# Altium schematic symbol library SCH - MCU - RENESAS - RENESAS R7FS5D97XXXXXXFC 176LQFP.SchLib: 1 symbol
Pins are listed as number, name and electrical type; pins without a type are passive.

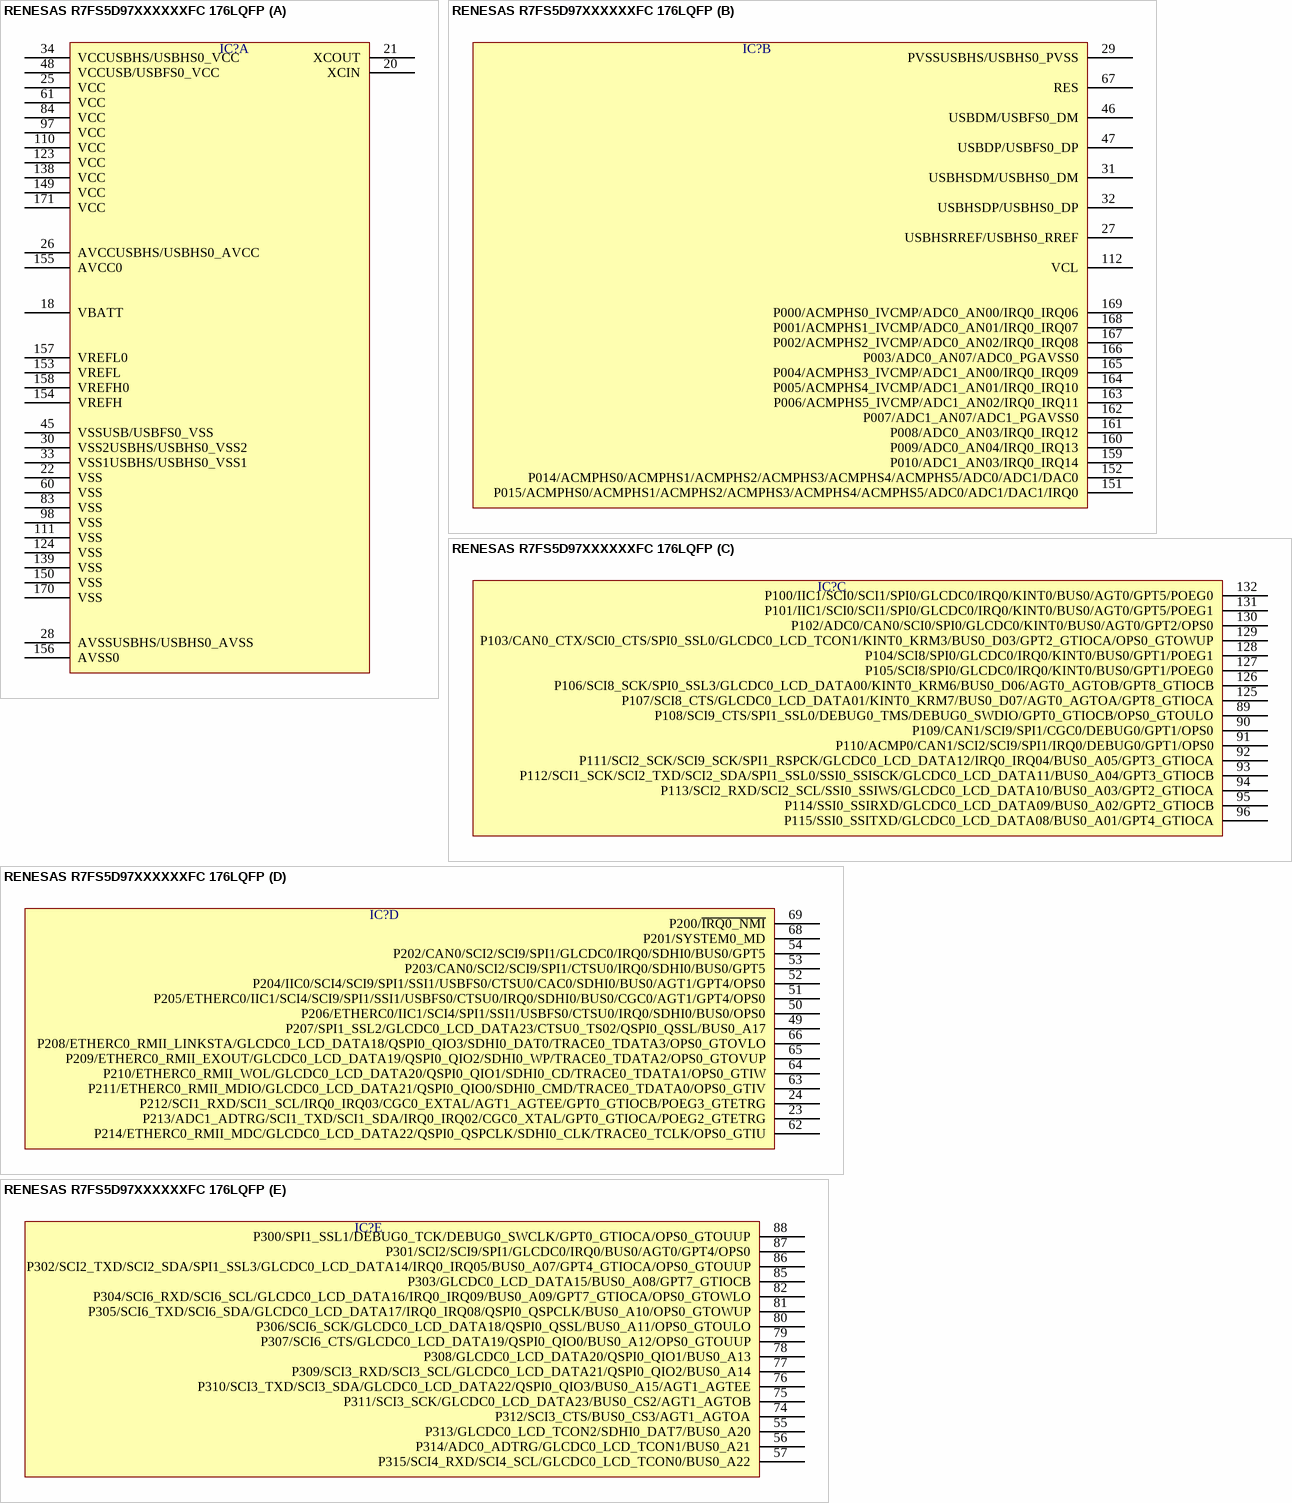
[diagram p0: symbol RENESAS R7FS5D97XXXXXXFC 176LQFP]

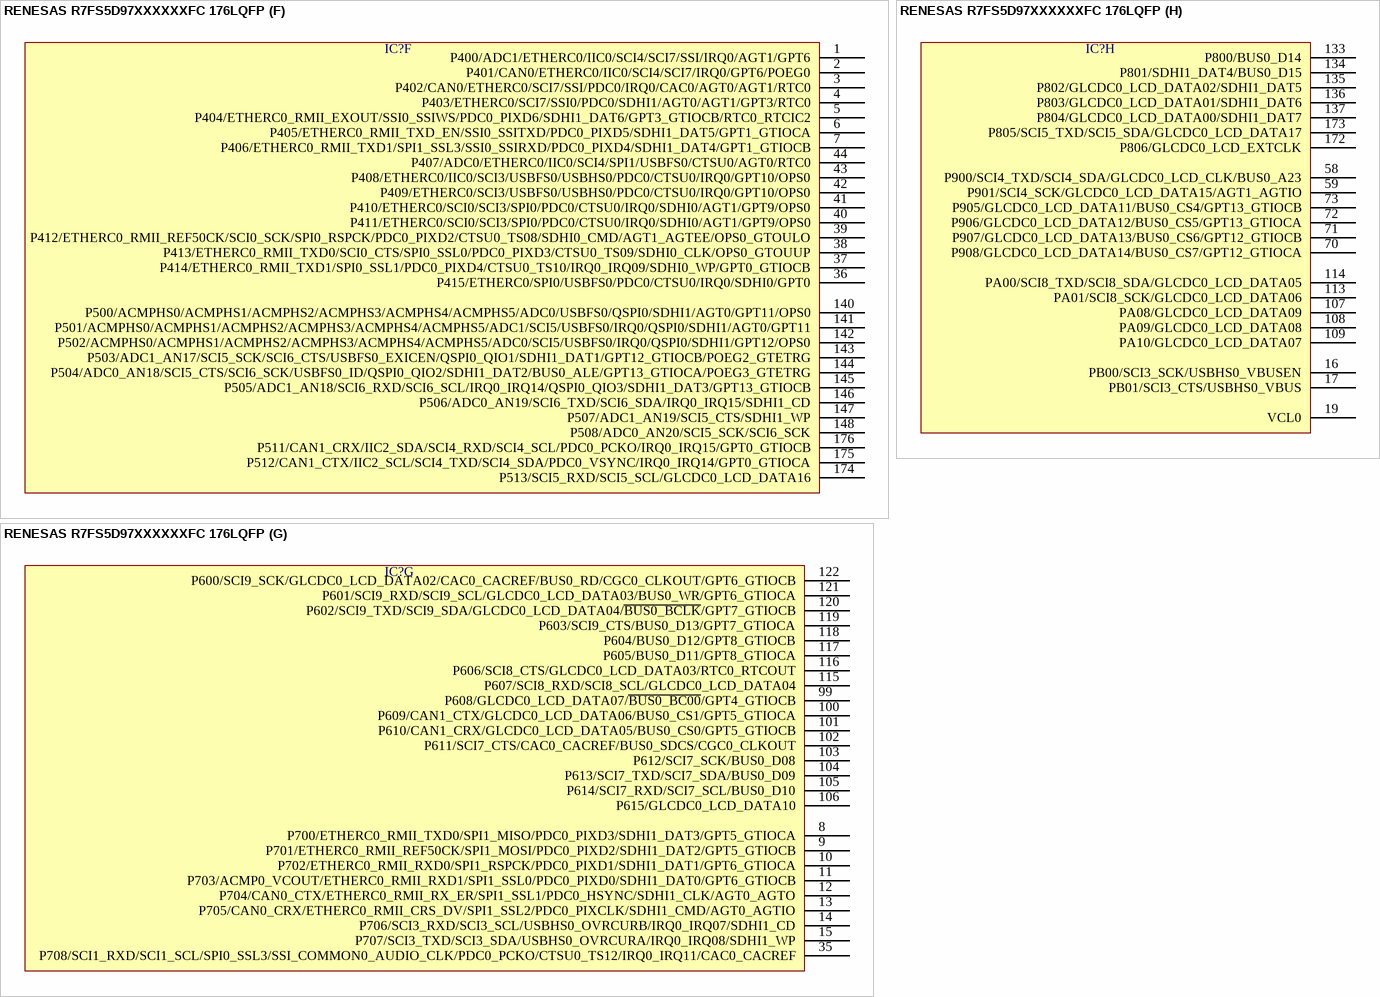
[diagram p1: symbol RENESAS R7FS5D97XXXXXXFC 176LQFP]

## RENESAS R7FS5D97XXXXXXFC 176LQFP
designator IC?  (value not drawn)
part A pins: 18 VBATT, 20 XCIN, 21 XCOUT, 22 VSS, 25 VCC, 26 AVCCUSBHS/USBHS0_AVCC, 28 AVSSUSBHS/USBHS0_AVSS, 30 VSS2USBHS/USBHS0_VSS2, 33 VSS1USBHS/USBHS0_VSS1, 34 VCCUSBHS/USBHS0_VCC, 45 VSSUSB/USBFS0_VSS, 48 VCCUSB/USBFS0_VCC, 60 VSS, 61 VCC, 83 VSS, 84 VCC, 97 VCC, 98 VSS, 110 VCC, 111 VSS, 123 VCC, 124 VSS, 138 VCC, 139 VSS, 149 VCC, 150 VSS, 153 VREFL, 154 VREFH, 155 AVCC0, 156 AVSS0, 157 VREFL0, 158 VREFH0, 170 VSS, 171 VCC
part B pins: 27 USBHSRREF/USBHS0_RREF, 29 PVSSUSBHS/USBHS0_PVSS, 31 USBHSDM/USBHS0_DM, 32 USBHSDP/USBHS0_DP, 46 USBDM/USBFS0_DM, 47 USBDP/USBFS0_DP, 67 RES, 112 VCL, 151 P015/ACMPHS0/ACMPHS1/ACMPHS2/ACMPHS3/ACMPHS4/ACMPHS5/ADC0/ADC1/DAC1/IRQ0, 152 P014/ACMPHS0/ACMPHS1/ACMPHS2/ACMPHS3/ACMPHS4/ACMPHS5/ADC0/ADC1/DAC0, 159 P010/ADC1_AN03/IRQ0_IRQ14, 160 P009/ADC0_AN04/IRQ0_IRQ13, 161 P008/ADC0_AN03/IRQ0_IRQ12, 162 P007/ADC1_AN07/ADC1_PGAVSS0, 163 P006/ACMPHS5_IVCMP/ADC1_AN02/IRQ0_IRQ11, 164 P005/ACMPHS4_IVCMP/ADC1_AN01/IRQ0_IRQ10, 165 P004/ACMPHS3_IVCMP/ADC1_AN00/IRQ0_IRQ09, 166 P003/ADC0_AN07/ADC0_PGAVSS0, 167 P002/ACMPHS2_IVCMP/ADC0_AN02/IRQ0_IRQ08, 168 P001/ACMPHS1_IVCMP/ADC0_AN01/IRQ0_IRQ07, 169 P000/ACMPHS0_IVCMP/ADC0_AN00/IRQ0_IRQ06
part C pins: 89 P108/SCI9_CTS/SPI1_SSL0/DEBUG0_TMS/DEBUG0_SWDIO/GPT0_GTIOCB/OPS0_GTOULO, 90 P109/CAN1/SCI9/SPI1/CGC0/DEBUG0/GPT1/OPS0, 91 P110/ACMP0/CAN1/SCI2/SCI9/SPI1/IRQ0/DEBUG0/GPT1/OPS0, 92 P111/SCI2_SCK/SCI9_SCK/SPI1_RSPCK/GLCDC0_LCD_DATA12/IRQ0_IRQ04/BUS0_A05/GPT3_GTIOCA, 93 P112/SCI1_SCK/SCI2_TXD/SCI2_SDA/SPI1_SSL0/SSI0_SSISCK/GLCDC0_LCD_DATA11/BUS0_A04/GPT3_GTIOCB, 94 P113/SCI2_RXD/SCI2_SCL/SSI0_SSIWS/GLCDC0_LCD_DATA10/BUS0_A03/GPT2_GTIOCA, 95 P114/SSI0_SSIRXD/GLCDC0_LCD_DATA09/BUS0_A02/GPT2_GTIOCB, 96 P115/SSI0_SSITXD/GLCDC0_LCD_DATA08/BUS0_A01/GPT4_GTIOCA, 125 P107/SCI8_CTS/GLCDC0_LCD_DATA01/KINT0_KRM7/BUS0_D07/AGT0_AGTOA/GPT8_GTIOCA, 126 P106/SCI8_SCK/SPI0_SSL3/GLCDC0_LCD_DATA00/KINT0_KRM6/BUS0_D06/AGT0_AGTOB/GPT8_GTIOCB, 127 P105/SCI8/SPI0/GLCDC0/IRQ0/KINT0/BUS0/GPT1/POEG0, 128 P104/SCI8/SPI0/GLCDC0/IRQ0/KINT0/BUS0/GPT1/POEG1, 129 P103/CAN0_CTX/SCI0_CTS/SPI0_SSL0/GLCDC0_LCD_TCON1/KINT0_KRM3/BUS0_D03/GPT2_GTIOCA/OPS0_GTOWUP, 130 P102/ADC0/CAN0/SCI0/SPI0/GLCDC0/KINT0/BUS0/AGT0/GPT2/OPS0, 131 P101/IIC1/SCI0/SCI1/SPI0/GLCDC0/IRQ0/KINT0/BUS0/AGT0/GPT5/POEG1, 132 P100/IIC1/SCI0/SCI1/SPI0/GLCDC0/IRQ0/KINT0/BUS0/AGT0/GPT5/POEG0
part D pins: 23 P213/ADC1_ADTRG/SCI1_TXD/SCI1_SDA/IRQ0_IRQ02/CGC0_XTAL/GPT0_GTIOCA/POEG2_GTETRG, 24 P212/SCI1_RXD/SCI1_SCL/IRQ0_IRQ03/CGC0_EXTAL/AGT1_AGTEE/GPT0_GTIOCB/POEG3_GTETRG, 49 P207/SPI1_SSL2/GLCDC0_LCD_DATA23/CTSU0_TS02/QSPI0_QSSL/BUS0_A17, 50 P206/ETHERC0/IIC1/SCI4/SPI1/SSI1/USBFS0/CTSU0/IRQ0/SDHI0/BUS0/OPS0, 51 P205/ETHERC0/IIC1/SCI4/SCI9/SPI1/SSI1/USBFS0/CTSU0/IRQ0/SDHI0/BUS0/CGC0/AGT1/GPT4/OPS0, 52 P204/IIC0/SCI4/SCI9/SPI1/SSI1/USBFS0/CTSU0/CAC0/SDHI0/BUS0/AGT1/GPT4/OPS0, 53 P203/CAN0/SCI2/SCI9/SPI1/CTSU0/IRQ0/SDHI0/BUS0/GPT5, 54 P202/CAN0/SCI2/SCI9/SPI1/GLCDC0/IRQ0/SDHI0/BUS0/GPT5, 62 P214/ETHERC0_RMII_MDC/GLCDC0_LCD_DATA22/QSPI0_QSPCLK/SDHI0_CLK/TRACE0_TCLK/OPS0_GTIU, 63 P211/ETHERC0_RMII_MDIO/GLCDC0_LCD_DATA21/QSPI0_QIO0/SDHI0_CMD/TRACE0_TDATA0/OPS0_GTIV, 64 P210/ETHERC0_RMII_WOL/GLCDC0_LCD_DATA20/QSPI0_QIO1/SDHI0_CD/TRACE0_TDATA1/OPS0_GTIW, 65 P209/ETHERC0_RMII_EXOUT/GLCDC0_LCD_DATA19/QSPI0_QIO2/SDHI0_WP/TRACE0_TDATA2/OPS0_GTOVUP, 66 P208/ETHERC0_RMII_LINKSTA/GLCDC0_LCD_DATA18/QSPI0_QIO3/SDHI0_DAT0/TRACE0_TDATA3/OPS0_GTOVLO, 68 P201/SYSTEM0_MD, 69 P200/~{IRQ0_NMI}
part E pins: 55 P313/GLCDC0_LCD_TCON2/SDHI0_DAT7/BUS0_A20, 56 P314/ADC0_ADTRG/GLCDC0_LCD_TCON1/BUS0_A21, 57 P315/SCI4_RXD/SCI4_SCL/GLCDC0_LCD_TCON0/BUS0_A22, 74 P312/SCI3_CTS/BUS0_CS3/AGT1_AGTOA, 75 P311/SCI3_SCK/GLCDC0_LCD_DATA23/BUS0_CS2/AGT1_AGTOB, 76 P310/SCI3_TXD/SCI3_SDA/GLCDC0_LCD_DATA22/QSPI0_QIO3/BUS0_A15/AGT1_AGTEE, 77 P309/SCI3_RXD/SCI3_SCL/GLCDC0_LCD_DATA21/QSPI0_QIO2/BUS0_A14, 78 P308/GLCDC0_LCD_DATA20/QSPI0_QIO1/BUS0_A13, 79 P307/SCI6_CTS/GLCDC0_LCD_DATA19/QSPI0_QIO0/BUS0_A12/OPS0_GTOUUP, 80 P306/SCI6_SCK/GLCDC0_LCD_DATA18/QSPI0_QSSL/BUS0_A11/OPS0_GTOULO, 81 P305/SCI6_TXD/SCI6_SDA/GLCDC0_LCD_DATA17/IRQ0_IRQ08/QSPI0_QSPCLK/BUS0_A10/OPS0_GTOWUP, 82 P304/SCI6_RXD/SCI6_SCL/GLCDC0_LCD_DATA16/IRQ0_IRQ09/BUS0_A09/GPT7_GTIOCA/OPS0_GTOWLO, 85 P303/GLCDC0_LCD_DATA15/BUS0_A08/GPT7_GTIOCB, 86 P302/SCI2_TXD/SCI2_SDA/SPI1_SSL3/GLCDC0_LCD_DATA14/IRQ0_IRQ05/BUS0_A07/GPT4_GTIOCA/OPS0_GTOUUP, 87 P301/SCI2/SCI9/SPI1/GLCDC0/IRQ0/BUS0/AGT0/GPT4/OPS0, 88 P300/SPI1_SSL1/DEBUG0_TCK/DEBUG0_SWCLK/GPT0_GTIOCA/OPS0_GTOUUP
part F pins: 1 P400/ADC1/ETHERC0/IIC0/SCI4/SCI7/SSI/IRQ0/AGT1/GPT6, 2 P401/CAN0/ETHERC0/IIC0/SCI4/SCI7/IRQ0/GPT6/POEG0, 3 P402/CAN0/ETHERC0/SCI7/SSI/PDC0/IRQ0/CAC0/AGT0/AGT1/RTC0, 4 P403/ETHERC0/SCI7/SSI0/PDC0/SDHI1/AGT0/AGT1/GPT3/RTC0, 5 P404/ETHERC0_RMII_EXOUT/SSI0_SSIWS/PDC0_PIXD6/SDHI1_DAT6/GPT3_GTIOCB/RTC0_RTCIC2, 6 P405/ETHERC0_RMII_TXD_EN/SSI0_SSITXD/PDC0_PIXD5/SDHI1_DAT5/GPT1_GTIOCA, 7 P406/ETHERC0_RMII_TXD1/SPI1_SSL3/SSI0_SSIRXD/PDC0_PIXD4/SDHI1_DAT4/GPT1_GTIOCB, 36 P415/ETHERC0/SPI0/USBFS0/PDC0/CTSU0/IRQ0/SDHI0/GPT0, 37 P414/ETHERC0_RMII_TXD1/SPI0_SSL1/PDC0_PIXD4/CTSU0_TS10/IRQ0_IRQ09/SDHI0_WP/GPT0_GTIOCB, 38 P413/ETHERC0_RMII_TXD0/SCI0_CTS/SPI0_SSL0/PDC0_PIXD3/CTSU0_TS09/SDHI0_CLK/OPS0_GTOUUP, 39 P412/ETHERC0_RMII_REF50CK/SCI0_SCK/SPI0_RSPCK/PDC0_PIXD2/CTSU0_TS08/SDHI0_CMD/AGT1_AGTEE/OPS0_GTOULO, 40 P411/ETHERC0/SCI0/SCI3/SPI0/PDC0/CTSU0/IRQ0/SDHI0/AGT1/GPT9/OPS0, 41 P410/ETHERC0/SCI0/SCI3/SPI0/PDC0/CTSU0/IRQ0/SDHI0/AGT1/GPT9/OPS0, 42 P409/ETHERC0/SCI3/USBFS0/USBHS0/PDC0/CTSU0/IRQ0/GPT10/OPS0, 43 P408/ETHERC0/IIC0/SCI3/USBFS0/USBHS0/PDC0/CTSU0/IRQ0/GPT10/OPS0, 44 P407/ADC0/ETHERC0/IIC0/SCI4/SPI1/USBFS0/CTSU0/AGT0/RTC0, 140 P500/ACMPHS0/ACMPHS1/ACMPHS2/ACMPHS3/ACMPHS4/ACMPHS5/ADC0/USBFS0/QSPI0/SDHI1/AGT0/GPT11/OPS0, 141 P501/ACMPHS0/ACMPHS1/ACMPHS2/ACMPHS3/ACMPHS4/ACMPHS5/ADC1/SCI5/USBFS0/IRQ0/QSPI0/SDHI1/AGT0/GPT11, 142 P502/ACMPHS0/ACMPHS1/ACMPHS2/ACMPHS3/ACMPHS4/ACMPHS5/ADC0/SCI5/USBFS0/IRQ0/QSPI0/SDHI1/GPT12/OPS0, 143 P503/ADC1_AN17/SCI5_SCK/SCI6_CTS/USBFS0_EXICEN/QSPI0_QIO1/SDHI1_DAT1/GPT12_GTIOCB/POEG2_GTETRG, 144 P504/ADC0_AN18/SCI5_CTS/SCI6_SCK/USBFS0_ID/QSPI0_QIO2/SDHI1_DAT2/BUS0_ALE/GPT13_GTIOCA/POEG3_GTETRG, 145 P505/ADC1_AN18/SCI6_RXD/SCI6_SCL/IRQ0_IRQ14/QSPI0_QIO3/SDHI1_DAT3/GPT13_GTIOCB, 146 P506/ADC0_AN19/SCI6_TXD/SCI6_SDA/IRQ0_IRQ15/SDHI1_CD, 147 P507/ADC1_AN19/SCI5_CTS/SDHI1_WP, 148 P508/ADC0_AN20/SCI5_SCK/SCI6_SCK, 174 P513/SCI5_RXD/SCI5_SCL/GLCDC0_LCD_DATA16, 175 P512/CAN1_CTX/IIC2_SCL/SCI4_TXD/SCI4_SDA/PDC0_VSYNC/IRQ0_IRQ14/GPT0_GTIOCA, 176 P511/CAN1_CRX/IIC2_SDA/SCI4_RXD/SCI4_SCL/PDC0_PCKO/IRQ0_IRQ15/GPT0_GTIOCB
part G pins: 8 P700/ETHERC0_RMII_TXD0/SPI1_MISO/PDC0_PIXD3/SDHI1_DAT3/GPT5_GTIOCA, 9 P701/ETHERC0_RMII_REF50CK/SPI1_MOSI/PDC0_PIXD2/SDHI1_DAT2/GPT5_GTIOCB, 10 P702/ETHERC0_RMII_RXD0/SPI1_RSPCK/PDC0_PIXD1/SDHI1_DAT1/GPT6_GTIOCA, 11 P703/ACMP0_VCOUT/ETHERC0_RMII_RXD1/SPI1_SSL0/PDC0_PIXD0/SDHI1_DAT0/GPT6_GTIOCB, 12 P704/CAN0_CTX/ETHERC0_RMII_RX_ER/SPI1_SSL1/PDC0_HSYNC/SDHI1_CLK/AGT0_AGTO, 13 P705/CAN0_CRX/ETHERC0_RMII_CRS_DV/SPI1_SSL2/PDC0_PIXCLK/SDHI1_CMD/AGT0_AGTIO, 14 P706/SCI3_RXD/SCI3_SCL/USBHS0_OVRCURB/IRQ0_IRQ07/SDHI1_CD, 15 P707/SCI3_TXD/SCI3_SDA/USBHS0_OVRCURA/IRQ0_IRQ08/SDHI1_WP, 35 P708/SCI1_RXD/SCI1_SCL/SPI0_SSL3/SSI_COMMON0_AUDIO_CLK/PDC0_PCKO/CTSU0_TS12/IRQ0_IRQ11/CAC0_CACREF, 99 P608/GLCDC0_LCD_DATA07/~{BUS0_BC00}/GPT4_GTIOCB, 100 P609/CAN1_CTX/GLCDC0_LCD_DATA06/BUS0_CS1/GPT5_GTIOCA, 101 P610/CAN1_CRX/GLCDC0_LCD_DATA05/BUS0_CS0/GPT5_GTIOCB, 102 P611/SCI7_CTS/CAC0_CACREF/BUS0_SDCS/CGC0_CLKOUT, 103 P612/SCI7_SCK/BUS0_D08, 104 P613/SCI7_TXD/SCI7_SDA/BUS0_D09, 105 P614/SCI7_RXD/SCI7_SCL/BUS0_D10, 106 P615/GLCDC0_LCD_DATA10, 115 P607/SCI8_RXD/SCI8_SCL/GLCDC0_LCD_DATA04, 116 P606/SCI8_CTS/GLCDC0_LCD_DATA03/RTC0_RTCOUT, 117 P605/BUS0_D11/GPT8_GTIOCA, 118 P604/BUS0_D12/GPT8_GTIOCB, 119 P603/SCI9_CTS/BUS0_D13/GPT7_GTIOCA, 120 P602/SCI9_TXD/SCI9_SDA/GLCDC0_LCD_DATA04/~{BUS0_BCLK}/GPT7_GTIOCB, 121 P601/SCI9_RXD/SCI9_SCL/GLCDC0_LCD_DATA03/BUS0_WR/GPT6_GTIOCA, 122 P600/SCI9_SCK/GLCDC0_LCD_DATA02/CAC0_CACREF/BUS0_RD/CGC0_CLKOUT/GPT6_GTIOCB
part H pins: 16 PB00/SCI3_SCK/USBHS0_VBUSEN, 17 PB01/SCI3_CTS/USBHS0_VBUS, 19 VCL0, 58 P900/SCI4_TXD/SCI4_SDA/GLCDC0_LCD_CLK/BUS0_A23, 59 P901/SCI4_SCK/GLCDC0_LCD_DATA15/AGT1_AGTIO, 70 P908/GLCDC0_LCD_DATA14/BUS0_CS7/GPT12_GTIOCA, 71 P907/GLCDC0_LCD_DATA13/BUS0_CS6/GPT12_GTIOCB, 72 P906/GLCDC0_LCD_DATA12/BUS0_CS5/GPT13_GTIOCA, 73 P905/GLCDC0_LCD_DATA11/BUS0_CS4/GPT13_GTIOCB, 107 PA08/GLCDC0_LCD_DATA09, 108 PA09/GLCDC0_LCD_DATA08, 109 PA10/GLCDC0_LCD_DATA07, 113 PA01/SCI8_SCK/GLCDC0_LCD_DATA06, 114 PA00/SCI8_TXD/SCI8_SDA/GLCDC0_LCD_DATA05, 133 P800/BUS0_D14, 134 P801/SDHI1_DAT4/BUS0_D15, 135 P802/GLCDC0_LCD_DATA02/SDHI1_DAT5, 136 P803/GLCDC0_LCD_DATA01/SDHI1_DAT6, 137 P804/GLCDC0_LCD_DATA00/SDHI1_DAT7, 172 P806/GLCDC0_LCD_EXTCLK, 173 P805/SCI5_TXD/SCI5_SDA/GLCDC0_LCD_DATA17